# Altium schematic symbol library MyLib.SchLib: 22 symbols
Pins are listed as number, name and electrical type; pins without a type are passive.

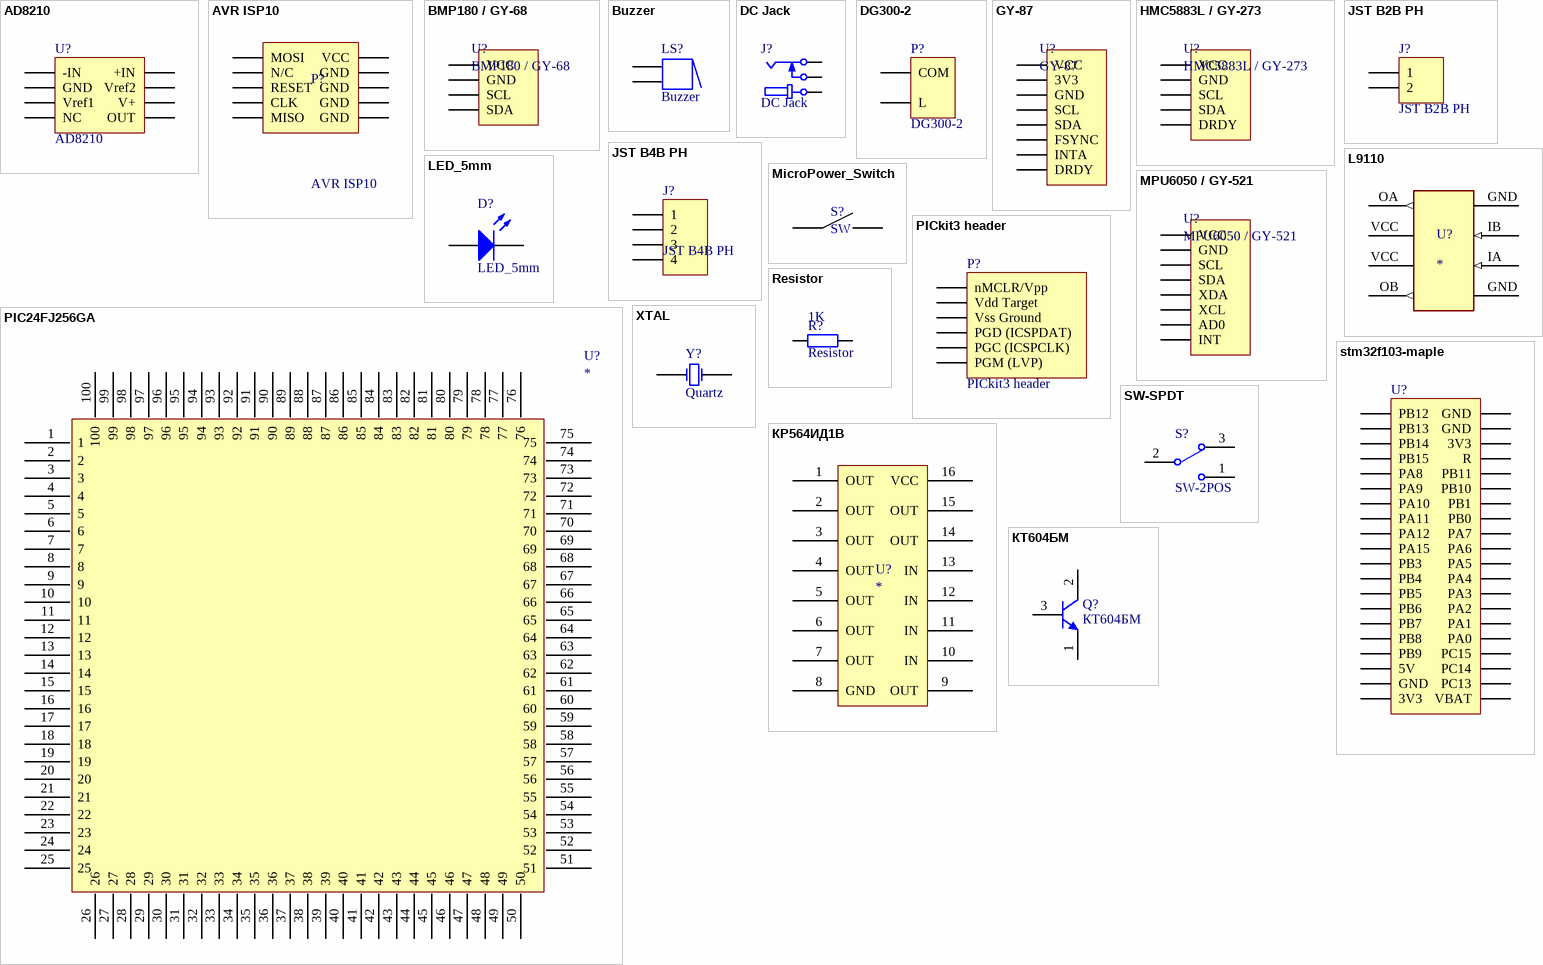
[diagram p0: symbols AD8210 to КТ604БМ]

## AD8210
designator U?
LatestRevisionDate: 17-Jul-2002; LatestRevisionNote: Re-released for DXP Platform.; Publisher: Altium Limited
footprint SO(IC)8_N (SOIC, 8-Leads, Body 4.9x3.9mm, Pitch 1.27mm, IPC Medium Density)
pins: 1 -IN, 2 GND, 3 Vref1, 4 NC, 5 OUT, 6 V+, 7 Vref2, 8 +IN
1 alternate drawing of the same symbol

## AVR ISP10
designator P?
Header, 5-Pin, Dual row
footprint AVR ISP10 (Connector; Header; 5x2 Position)
pins: 1 MOSI, 2 VCC, 3 N/C, 4 GND, 5 RESET, 6 GND, 7 CLK, 8 GND, 9 MISO, 10 GND

## BMP180 / GY-68
designator U?
footprint BMP180
pins: 1 VCC, 2 GND, 3 SCL, 4 SDA

## Buzzer
designator LS?
Magnetic Transducer Buzzer; Published: 24-Mar-1999; LatestRevisionDate: 17-Dec-2003; LatestRevisionNote: Schematic revised, PCB Footprint replaced.; DatasheetVersion: 17-Dec-2003; PackageReference: ABSM-1574; Publisher: Altium Limited; PackageDescription: Magnetic Transducer Buzzer; ComponentLink1Description: Manufacturer Link; ComponentLink1URL: http://www.megastar.com/linecard/buzzmode/index.php
footprint BUZZER_65
pins: 1, 2
1 alternate drawing of the same symbol

## DC Jack
designator J?
Jack Socket, 1/4" [6.5mm], Thru-Hole, Vertical, 2-Conductor with Tip closed
footprint DC_Jack
pins: 1 S (power) "Sleeve (Ground)", 2 T "Tip", 3 TN "Tip Normal (Break Contact)"

## DG300-2
designator P?
Blue contact claws
footprint DG300-2
pins: 1 COM, 2 L

## GY-87
designator U?
footprint GY-87
pins: 1 VCC, 2 3V3, 3 GND, 4 SCL, 5 SDA, 6 FSYNC, 7 INTA, 8 DRDY

## HMC5883L / GY-273
designator U?
footprint HMC5883L
pins: 1 VCC, 2 GND, 3 SCL, 4 SDA, 5 DRDY

## JST B2B PH
designator J?
JST PH Header, 2-Pin
footprint JST B2B-PH-K
pins: 1, 2

## JST B4B PH
designator J?
JST PH Header, 4-Pin
footprint JST B4B-PH-K
pins: 1, 2, 3, 4

## L9110
designator U?
H-bridge
pins: GND 5 (power), GND 8 (power), IA 6 (in), IB 7 (in), OA 1 (out), OB 4 (out), VCC 2 (power), VCC 3 (power)

## LED_5mm
designator D?
Typical RED GaAs LED; Published: 8-Jun-2000; LatestRevisionDate: 08-Jul-2005; LatestRevisionNote: Mech Layer 1 removed.; PackageReference: LED-1; Publisher: Altium Limited; PackageDescription: LED; 2 Leads
footprint LED_5mm
pins: 1 A, 2 K

## MicroPower_Switch
designator S?, comment SW
pins: 1, 2

## MPU6050 / GY-521
designator U?
footprint MPU6050
pins: 1 VCC, 2 GND, 3 SCL, 4 SDA, 5 XDA, 6 XCL, 7 AD0, 8 INT

## PIC24FJ256GA
designator U?
footprint TQFP100_N (100-Pin Thin Quad Flat Pack 0.5 mm Pitch, IPC Medium Density)
pins: 1, 2, 3, 4, 5, 6, 7, 8, 9, 10, 11, 12, 13, 14, 15, 16, 17, 18, 19, 20, 21, 22, 23, 24, 25, 26, 27, 28, 29, 30, 31, 32, 33, 34, 35, 36, 37, 38, 39, 40, 41, 42, 43, 44, 45, 46, 47, 48, 49, 50, 51, 52, 53, 54, 55, 56, 57, 58, 59, 60, 61, 62, 63, 64, 65, 66, 67, 68, 69, 70, 71, 72, 73, 74, 75, 76, 77, 78, 79, 80, 81, 82, 83, 84, 85, 86, 87, 88, 89, 90, 91, 92, 93, 94, 95, 96, 97, 98, 99, 100

## PICkit3 header
designator P?
LatestRevisionDate: 17-Jul-2002; LatestRevisionNote: Re-released for DXP Platform.; Publisher: Altium Limited
footprint HDR1X6 (Connector; Header; 6 Position)
pins: 1 nMCLR/Vpp, 2 Vdd Target, 3 Vss Ground, 4 PGD (ICSPDAT), 5 PGC (ICSPCLK), 6 PGM (LVP)

## Resistor
designator R?  value 1K
Published: 8-Jun-2000; LatestRevisionDate: 17-Jul-2002; LatestRevisionNote: Re-released for DXP Platform.; PackageReference: AXIAL-0.4; Publisher: Altium Limited; PackageDescription: Axial Device, Thru-Hole; 2 Leads; 0.4 in Pin Spacing
footprint Resistor-0.4 (Axial Device, Thru-Hole; 2 Leads; 0.4 in Pin Spacing)
footprint Resistor-0.5 (Axial Device, Thru-Hole; 2 Leads; 0.4 in Pin Spacing)
pins: 1, 2

## stm32f103-maple
designator U?
LatestRevisionDate: 17-Jul-2002; LatestRevisionNote: Re-released for DXP Platform.; Publisher: Altium Limited
footprint stm32f103-maple
pins: 1 PB12, 2 PB13, 3 PB14, 4 PB15, 6 PA8, 7 PA9, 8 PA10, 9 PA11, 10 PA12, 11 PB3, 11 PA15, 12 PB4, 13 PB5, 14 PB6, 15 PB7, 16 PB8, 17 PB9, 18 5V, 19 GND, 20 3V3, 21 VBAT, 22 PC13, 23 PC14, 24 PC15, 25 PA0, 26 PA1, 27 PA2, 28 PA3, 29 PA4, 30 PA5, 31 PA6, 32 PA7, 33 PB0, 34 PB1, 35 PB10, 36 PB11, 37 R, 38 3V3, 39 GND, 40 GND

## SW-SPDT
designator S?, comment SW-2POS
SPDT Subminiature Toggle Switch, Right Angle Mounting, Vertical Actuation; Published: 24-Mar-1999; LatestRevisionDate: 17-Dec-2003; LatestRevisionNote: Schematic revised, PCB Footprint replaced.; DatasheetVersion: 05-Dec-2000; PackageReference: TL36WW15050; Publisher: Altium Limited; PackageDescription: Switch; 4 Leads; ComponentLink1Description: Manufacturer Link; ComponentLink1URL: http://www.apem.com
footprint SWITCH_RWJ-006
pins: 1, 2, 3

## XTAL
designator Y?, comment Quartz
Crystal Oscillator; Published: 8-Jun-2000; LatestRevisionDate: 17-Jul-2002; LatestRevisionNote: Re-released for DXP Platform.; PackageReference: R38; Publisher: Altium Limited; PackageDescription: Crystal, Thru-Hole; 2 Leads; Body 3.1 x 8.2 mm (Dia.xH)
footprint HC49S
footprint HC49US (SMD)
pins: 1 OSC1, 2 OSC2

## КР564ИД1В
designator U?
Decoder
footprint DIP16 (DIP; 16 Leads; Row Spacing 7.62 mm; Pitch 2.54 mm)
pins: 1 OUT, 2 OUT, 3 OUT, 4 OUT, 5 OUT, 6 OUT, 7 OUT, 8 GND, 9 OUT, 10 IN, 11 IN, 12 IN, 13 IN, 14 OUT, 15 OUT, 16 VCC

## КТ604БМ
designator Q?
NPN Mid power Transistor
footprint SOT32 (SIP with Mounting Hole; 3 Leads; Body 10.7 x 7.6 x 2.6 mm (typ); Pitch 2.2 mm)
pins: 1 E, 2 C, 3 B